# EAGLE library part MAX16054AZT+T (library MAX16054AZT+T)
On Off Controller, Debounce, 15kV ESD MAX16054AZT+T, Voltage Supervisor No Push Button Controller 6-Pin SOT-23 Source: Datasheet <http://docs-europe.electrocomponents.com/webdocs/1050/0900766b810509a1.pdf>
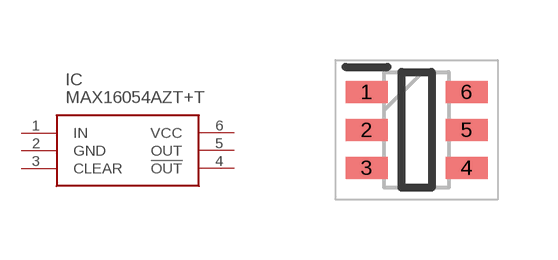
[diagram p0: symbol with the pads of SOT95P275X110-6N; footprint SOT95P275X110-6N]

Designator prefix IC

## MAX16054AZT+T (ARROW_PART_NUMBER: MAX16054AZT+T; ARROW_PRICE/STOCK: http://uk.rs-online.com/web/p/products/9237416; DESCRIPTION: On Off Controller, Debounce, 15kV ESD MAX16054AZT+T, Voltage Supervisor No Push Button Controller 6-Pin SOT-23; HEIGHT: 1.1mm; MANUFACTURER_NAME: Maxim Integrated; MANUFACTURER_PART_NUMBER: MAX16054AZT+T; RS_PART_NUMBER: 9237416; RS_PRICE/STOCK: http://uk.rs-online.com/web/p/products/9237416)  [SOT95P275X110-6N]
1  IN  in
2  GND  pwr
3  CLEAR
4  !OUT  out
5  OUT  out
6  VCC  pwr

## Footprint SOT95P275X110-6N (pad centres in mm)
21-0114 6L THIN SOT23
smd 1.05 x 0.55: 1 -1.25,0.95; 2 -1.25,0; 3 -1.25,-0.95; 4 1.25,-0.95; 5 1.25,0; 6 1.25,0.95